# Altium schematic symbol library SCH - MISC - DSUB15.SCHLIB: 1 symbol
Pins are listed as number, name and electrical type; pins without a type are passive.

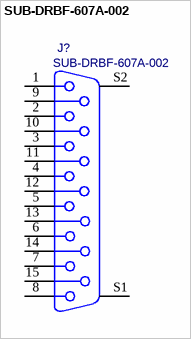
[diagram p0: symbol SUB-DRBF-607A-002]

## SUB-DRBF-607A-002
designator J?
BOM_Manufacturer: Nextron(台湾正凌); Contributor: LCSC; BOM_Supplier: LCSC; BOM_Supplier Part: C2846090; BOM_Manufacturer Part: SUB-DRBF-607A-002; BOM_JLCPCB Part Class: Extended Part; spicePre: D; spiceSymbolName: SUB-DRBF-607A-002
pins: 1, 2, 3, 4, 5, 6, 7, 8, 9, 10, 11, 12, 13, 14, 15, S1 MH1, S2 MH2